# Altium schematic symbol library MM3Z10VST1G.Schlib: 1 symbol
Pins are listed as number, name and electrical type; pins without a type are passive.

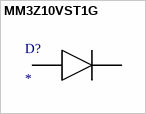
[diagram p0: symbol MM3Z10VST1G]

## MM3Z10VST1G
designator D?
Diode Schottky 60 V 1A (DC) Surface Mount SOD-123F
pins: 1, 2